# EAGLE library part ATTINY841 (library Qwiic_Iridium_9603N)
The high-performance Microchip picoPower 8-bit AVR RISC-based microcontroller combines 8KB ISP flash memory, 512-Byte EEPROM, 512B SRAM, 12 general purpose I/O lines, 32 general purpose working registers, an 8-bit timer/counter with two PWM channels,??two 16-bit timer/counters with two PWM channels, internal and external interrupts, an 12-channel 10-bit A/D converter, 2 On-chip analog comparators, 2 full duplex USARTs with Start Frame wake up from power down, master/slave SPI serial interface, slave I2C serial interface, programmable gain stage (1x, 20x, and 100x) for 12 differential ADC channel pairs, programmable watchdog timer with internal oscillator, internal calibrated oscillator, and four software selectable power saving modes. The device operates between 1.7-5.5 volts.
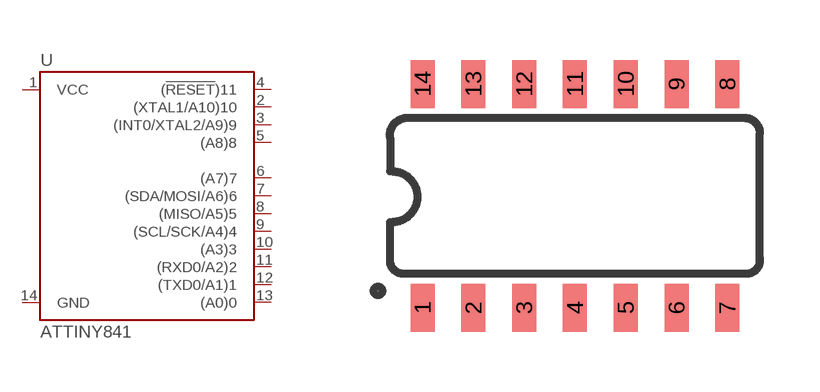
[diagram p1: symbol with the pads of ATTINY841; footprint ATTINY841]

Designator prefix U

## ATTINY841SOIC  [ATTINY841]
1  VCC
2  (XTAL1/A10)10
3  (INT0/XTAL2/A9)9
4  (!RESET!)11
5  (A8)8
6  (A7)7
7  (SDA/MOSI/A6)6
8  (MISO/A5)5
9  (SCL/SCK/A4)4
10  (A3)3
11  (RXD0/A2)2
12  (TXD0/A1)1
13  (A0)0
14  GND

## Footprint ATTINY841 (pad centres in mm)
smd 0.6 x 1.2: 1 -3.175,-2.8; 2 -1.905,-2.8; 3 -0.635,-2.8; 4 0.635,-2.8; 5 1.905,-2.8; 6 3.175,-2.8; 7 4.445,-2.8; 8 4.445,2.8; 9 3.175,2.8; 10 1.905,2.8; 11 0.635,2.8; 12 -0.635,2.8; 13 -1.905,2.8; 14 -3.175,2.8